# Altium schematic symbol library Schlib1.SchLib: 14 symbols
Pins are listed as number, name and electrical type; pins without a type are passive.

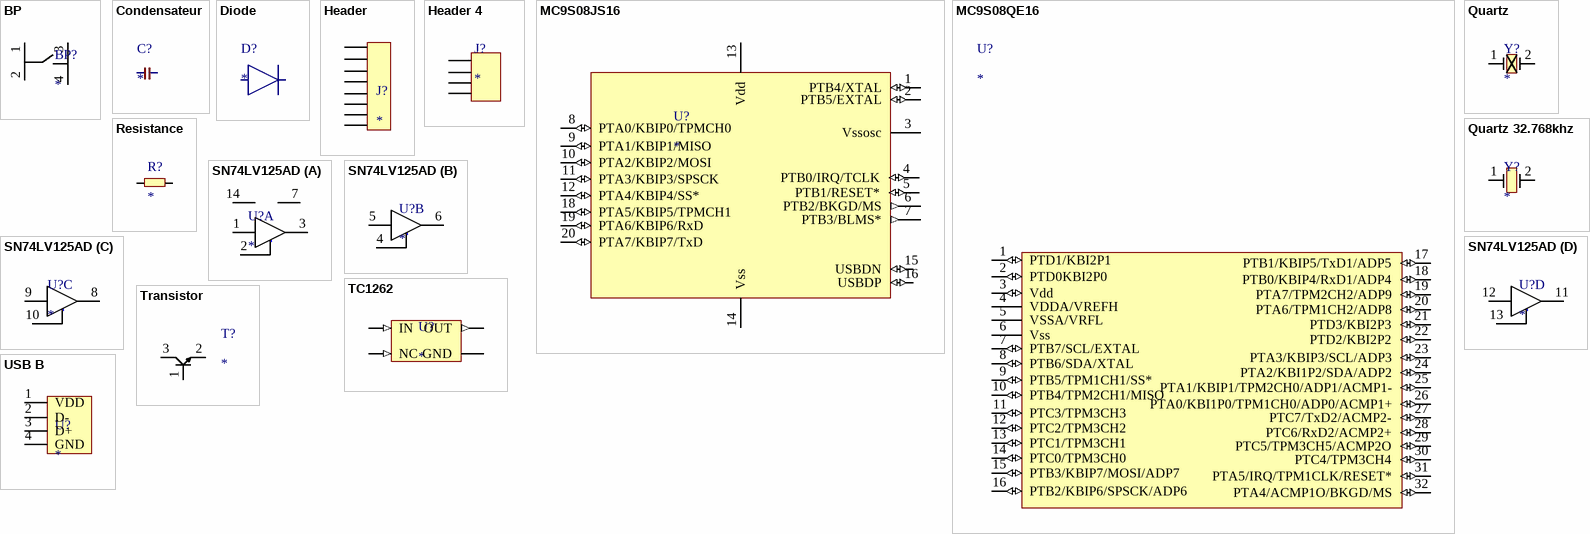
[diagram p0: symbols BP to USB B]

## BP
designator BP?
footprint BP
pins: 1, 2, 3, 4

## Condensateur
designator C?
Condensateur
footprint 0805
pins: 1, 2

## Diode
designator D?
led
footprint led
pins: 1, 2

## Header
designator J?
footprint Header 8
pins: 1, 2, 3, 4, 5, 6, 7, 8

## Header 4
designator J?
footprint Header 4
pins: 1, 2, 3, 4

## MC9S08JS16
designator U?
footprint MC9S08JS16
pins: 1 PTB4/XTAL (io), 2 PTB5/EXTAL (io), 3 Vssosc, 4 PTB0/IRQ/TCLK (io), 5 PTB1/RESET* (io), 6 PTB2/BKGD/MS (out), 7 PTB3/BLMS* (out), 8 PTA0/KBIP0/TPMCH0 (io), 9 PTA1/KBIP1/MISO (io), 10 PTA2/KBIP2/MOSI (io), 11 PTA3/KBIP3/SPSCK (io), 12 PTA4/KBIP4/SS* (io), 13 Vdd, 14 Vss, 15 USBDN (io), 16 USBDP (io), 18 PTA5/KBIP5/TPMCH1 (io), 19 PTA6/KBIP6/RxD (io), 20 PTA7/KBIP7/TxD (io)

## MC9S08QE16
designator U?
footprint LQFP_32
pins: 1 PTD1/KBI2P1 (io), 2 PTD0KBI2P0 (io), 3 Vdd (io), 4 VDDA/VREFH, 5 VSSA/VRFL, 6 Vss, 7 PTB7/SCL/EXTAL (io), 8 PTB6/SDA/XTAL (io), 9 PTB5/TPM1CH1/SS* (io), 10 PTB4/TPM2CH1/MISO (io), 11 PTC3/TPM3CH3 (io), 12 PTC2/TPM3CH2 (io), 13 PTC1/TPM3CH1 (io), 14 PTC0/TPM3CH0 (io), 15 PTB3/KBIP7/MOSI/ADP7 (io), 16 PTB2/KBIP6/SPSCK/ADP6 (io), 17 PTB1/KBIP5/TxD1/ADP5 (io), 18 PTB0/KBIP4/RxD1/ADP4 (io), 19 PTA7/TPM2CH2/ADP9 (io), 20 PTA6/TPM1CH2/ADP8 (io), 21 PTD3/KBI2P3 (io), 22 PTD2/KBI2P2 (io), 23 PTA3/KBIP3/SCL/ADP3 (io), 24 PTA2/KBI1P2/SDA/ADP2 (io), 25 PTA1/KBIP1/TPM2CH0/ADP1/ACMP1- (io), 26 PTA0/KBI1P0/TPM1CH0/ADP0/ACMP1+ (io), 27 PTC7/TxD2/ACMP2- (io), 28 PTC6/RxD2/ACMP2+ (io), 29 PTC5/TPM3CH5/ACMP2O (io), 30 PTC4/TPM3CH4 (io), 31 PTA5/IRQ/TPM1CLK/RESET* (io), 32 PTA4/ACMP1O/BKGD/MS (io)

## Quartz
designator Y?
footprint Quartz
pins: 1, 2

## Quartz 32.768khz
designator Y?
footprint Quartz 32.768kHZ
pins: 1 20, 2 19

## Resistance
designator R?
footprint 0805
pins: 1, 2

## SN74LV125AD
designator U?
footprint SN74LV125AD
part A pins: 1, 2, 3, 7, 14
part B pins: 4, 5, 6
part C pins: 8, 9, 10
part D pins: 11, 12, 13

## TC1262
designator U?
footprint TC1262 (Regulator 3.3)
pins: 1 IN (in), 2 GND, 3 OUT (out), 4 NC (in)

## Transistor
designator T?
footprint Transistor
pins: 1, 2, 3

## USB B
designator U?
footprint USB_B
pins: 1 VDD, 2 D-, 3 D+, 4 GND